# Altium schematic symbol library AP7179DSKZ20-13.SchLib: 1 symbol
Pins are listed as number, name and electrical type; pins without a type are passive.

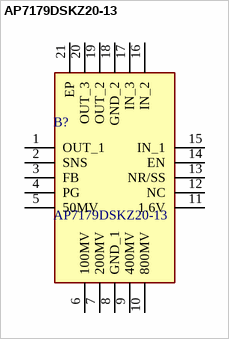
[diagram p0: symbol AP7179DSKZ20-13]

## AP7179DSKZ20-13
designator B?
LDO Voltage Regulators LDO CMOS HiCurr W-QFN3535-20 T&R 5K; Manufacturer_Name: Diodes Incorporated; Geometry.Height: 0.8mm; Mouser Part Number: *; Mouser Price/Stock: *; Manufacturer_Part_Number: AP7179DSKZ20-13; Datasheet Link: https://www.diodes.com//assets/Datasheets/AP7179D.pdf
footprint QFN50P350X350X80-21N-D
pins: 1 OUT_1, 2 SNS, 3 FB, 4 PG, 5 50MV, 6 100MV, 7 200MV, 8 GND_1, 9 400MV, 10 800MV, 11 1.6V, 12 NC, 13 NR/SS, 14 EN, 15 IN_1, 16 IN_2, 17 IN_3, 18 GND_2, 19 OUT_2, 20 OUT_3, 21 EP